# Altium footprint library rcl.PCBLIB: 489 footprints (part 15 of 31)
Each footprint in its own frame and in the unit in brackets; x right, y up, seen from the top. Pads: shape width x height; smd on the part's side, far side on the other; paste and mask are expansions set on the pad; w line width, h text height; cw(c..) or ccw(c..) is an arc to the next point about the centre after c.
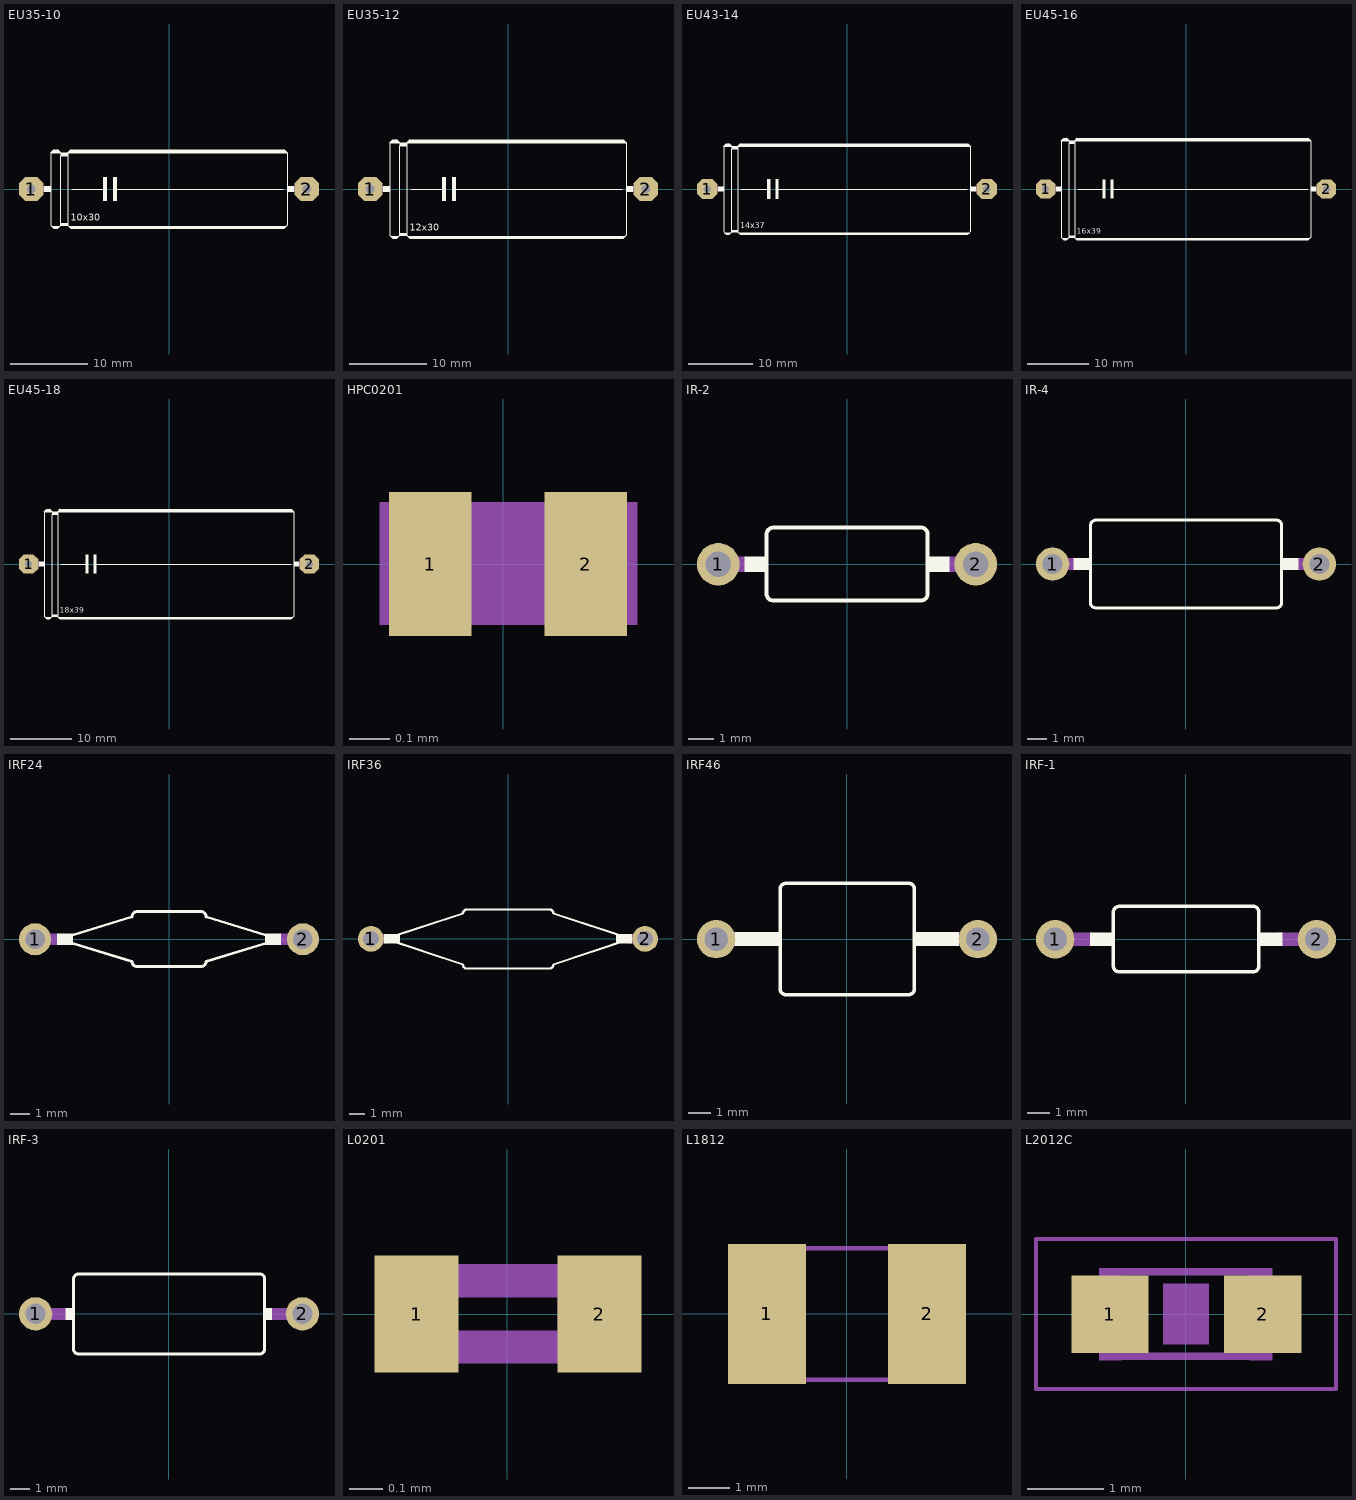
[diagram p14: the footprints below, top view; thin cyan lines are the x and y axes]

## EU35-10 [mil]
pads (2):
  oct 124x124 hole 44: 1(-700,0) 2(700,0)
Top Overlay:
  rectangle: -285,-60 -265,60
  rectangle: -635,-15 -600,15
  rectangle: 600,-15 635,15
  rectangle: -335,-60 -315,60
  lines w6: -495,0 -325,0 ; -270,0 580,0 ; -600,185 -600,-185 -595,-190 ; -600,185 -585,200 -565,200 -550,185 ; -600,185 -550,185 ; -595,-190 -555,-190 ; -595,-190 -585,-200 -565,-200 -555,-190 ; -555,-190 -550,-185 ; -550,-185 -550,-175 ; -550,-185 -515,-185 ; -550,-175 -515,-175 ; -550,-175 -550,170 ; -550,170 -550,185 ; -550,170 -515,170 ; -550,185 -515,185 ; -515,-185 -510,-190 ; -515,-185 -515,-175 ; -515,-175 -515,170 ; -515,170 -515,185 ; -515,185 -500,200 585,200 600,185 ; -515,185 600,185 ; -510,-190 -500,-200 585,-200 595,-190 ; -510,-190 595,-190 ; 595,-190 600,-185 600,185
  lines w10: -585,-195 -565,-195 ; -545,-180 -520,-180 ; -500,-195 585,-195
  lines w12: -590,190 -560,190 ; -585,195 -565,195 ; -545,175 -520,175 ; -545,180 -520,180 ; -505,190 590,190 ; -500,195 585,195
  text "10x30" at -500,-175 h60.45
Mechanical 16:
  lines w30: -700,0 -635,0 ; 635,0 700,0

## EU35-12 [mil]
pads (2):
  oct 124x124 hole 44: 1(-700,0) 2(700,0)
Top Overlay:
  rectangle: -285,-60 -265,60
  rectangle: -635,-15 -600,15
  rectangle: 600,-15 635,15
  rectangle: -335,-60 -315,60
  lines w6: -495,0 -325,0 ; -270,0 580,0 ; -600,235 -600,-235 -595,-240 ; -600,235 -585,250 -565,250 -550,235 ; -600,235 -550,235 ; -595,-240 -555,-240 ; -595,-240 -585,-250 -565,-250 -555,-240 ; -555,-240 -550,-235 ; -550,-235 -550,-225 ; -550,-235 -515,-235 ; -550,-225 -515,-225 ; -550,-225 -550,220 ; -550,220 -550,235 ; -550,220 -515,220 ; -550,235 -515,235 ; -515,-235 -510,-240 ; -515,-235 -515,-225 ; -515,-225 -515,220 ; -515,220 -515,235 ; -515,235 -500,250 585,250 600,235 ; -515,235 600,235 ; -510,-240 -500,-250 585,-250 595,-240 ; -510,-240 595,-240 ; 595,-240 600,-235 600,235
  lines w10: -585,-245 -565,-245 ; -545,-230 -520,-230 ; -500,-245 585,-245
  lines w12: -590,240 -560,240 ; -585,245 -565,245 ; -545,225 -520,225 ; -545,230 -520,230 ; -505,240 590,240 ; -500,245 585,245
  text "12x30" at -500,-225 h60.45
Mechanical 16:
  lines w30: -700,0 -635,0 ; 635,0 700,0

## EU43-14 [mil]
pads (2):
  oct 124x124 hole 44: 1(-850,0) 2(850,0)
Top Overlay:
  rectangle: -435,-60 -415,60
  rectangle: -485,-60 -465,60
  rectangle: 750,-15 785,15
  rectangle: -785,-15 -750,15
  lines w6: -645,0 -475,0 ; -420,0 730,0 ; -750,260 -750,-260 -745,-265 ; -750,260 -735,275 -715,275 -700,260 ; -750,260 -700,260 ; -745,-265 -705,-265 ; -745,-265 -735,-275 -715,-275 -705,-265 ; -705,-265 -700,-260 ; -700,-260 -700,-250 ; -700,-260 -665,-260 ; -700,-250 -665,-250 ; -700,-250 -700,245 ; -700,245 -700,260 ; -700,245 -665,245 ; -700,260 -665,260 ; -665,-260 -660,-265 ; -665,-260 -665,-250 ; -665,-250 -665,245 ; -665,245 -665,260 ; -665,260 -650,275 735,275 750,260 ; -665,260 750,260 ; -660,-265 -650,-275 735,-275 745,-265 ; -660,-265 745,-265 ; 745,-265 750,-260 750,260
  lines w10: -735,-270 -715,-270 ; -695,-255 -670,-255 ; -650,-270 735,-270
  lines w12: -740,265 -710,265 ; -735,270 -715,270 ; -695,250 -670,250 ; -695,255 -670,255 ; -655,265 740,265 ; -650,270 735,270
  text "14x37" at -650,-250 h60.45
Mechanical 16:
  lines w30: -850,0 -785,0 ; 785,0 850,0

## EU45-16 [mil]
pads (2):
  oct 124x124 hole 44: 1(-900,0) 2(900,0)
Top Overlay:
  rectangle: -485,-60 -465,60
  rectangle: -535,-60 -515,60
  rectangle: 800,-15 835,15
  rectangle: -835,-15 -800,15
  lines w6: -695,0 -525,0 ; -470,0 780,0 ; -800,310 -800,-310 -795,-315 ; -800,310 -785,325 -765,325 -750,310 ; -800,310 -750,310 ; -795,-315 -755,-315 ; -795,-315 -785,-325 -765,-325 -755,-315 ; -755,-315 -750,-310 ; -750,-310 -750,-300 ; -750,-310 -715,-310 ; -750,-300 -715,-300 ; -750,-300 -750,295 ; -750,295 -750,310 ; -750,295 -715,295 ; -750,310 -715,310 ; -715,-310 -710,-315 ; -715,-310 -715,-300 ; -715,-300 -715,295 ; -715,295 -715,310 ; -715,310 -700,325 785,325 800,310 ; -715,310 800,310 ; -710,-315 -700,-325 785,-325 795,-315 ; -710,-315 795,-315 ; 795,-315 800,-310 800,310
  lines w10: -785,-320 -765,-320 ; -745,-305 -720,-305 ; -700,-320 785,-320
  lines w12: -790,315 -760,315 ; -785,320 -765,320 ; -745,300 -720,300 ; -745,305 -720,305 ; -705,315 790,315 ; -700,320 785,320
  text "16x39" at -700,-300 h60.45
Mechanical 16:
  lines w30: -900,0 -835,0 ; 835,0 900,0

## EU45-18 [mil]
pads (2):
  oct 124x124 hole 44: 1(-900,0) 2(900,0)
Top Overlay:
  rectangle: -485,-60 -465,60
  rectangle: -535,-60 -515,60
  rectangle: 800,-15 835,15
  rectangle: -835,-15 -800,15
  lines w6: -695,0 -525,0 ; -470,0 780,0 ; -800,335 -800,-335 -795,-340 ; -800,335 -785,350 -765,350 -750,335 ; -800,335 -750,335 ; -795,-340 -755,-340 ; -795,-340 -785,-350 -765,-350 -755,-340 ; -755,-340 -750,-335 ; -750,-335 -750,-325 ; -750,-335 -715,-335 ; -750,-325 -715,-325 ; -750,-325 -750,320 ; -750,320 -750,335 ; -750,320 -715,320 ; -750,335 -715,335 ; -715,-335 -710,-340 ; -715,-335 -715,-325 ; -715,-325 -715,320 ; -715,320 -715,335 ; -715,335 -700,350 785,350 800,335 ; -715,335 800,335 ; -710,-340 -700,-350 785,-350 795,-340 ; -710,-340 795,-340 ; 795,-340 800,-335 800,335
  lines w10: -785,-345 -765,-345 ; -745,-330 -720,-330 ; -700,-345 785,-345
  lines w12: -790,340 -760,340 ; -785,345 -765,345 ; -745,325 -720,325 ; -745,330 -720,330 ; -705,340 790,340 ; -700,345 785,345
  text "18x39" at -700,-325 h60.45
Mechanical 16:
  lines w30: -900,0 -835,0 ; 835,0 900,0

## HPC0201 [mil]
pads (2):
  rect 8x14 smd: 1(-7.09,0) 2(8,0)
Mechanical 16:
  rectangle: -12.01,-5.91 13,6

## IR-2 [mil]
pads (2):
  round 66 hole 40: 1(-200,0) 2(200,0)
Top Overlay:
  rectangle: 125,-12 159,12
  rectangle: -159,-12 -125,12
  lines w6: -125,-45.83 ccw(c-114.94,-46.04) -115.16,-56.1 116,-56.1 ccw(c115.36,-46.46) 125,-45.83 125,46 ccw(c115,47) 116,57 -114.17,57 ccw(c-114.09,46.09) -125,46 -125,-45.83
Mechanical 16:
  lines w24: -200,0 -160,0 ; 160,0 200,0

## IR-4 [mil]
pads (2):
  round 66 hole 40: 1(-263.98,0) 2(265,0)
Top Overlay:
  rectangle: 190,-12 224,12
  rectangle: -222.98,-12 -188.98,12
  lines w6: -188.98,-76.34 ccw(c-178.92,-76.56) -179.13,-86.61 181,-86.61 ccw(c180.36,-76.98) 190,-76.34 190,77 ccw(c180.5,77.5) 181,87 -178.15,87 ccw(c-178.56,76.59) -188.98,77 -188.98,-76.34
Mechanical 16:
  lines w24: -263.98,0 -223.98,0 ; 225,0 265,0

## IRF24 [mil]
pads (2):
  round 66 hole 40: 1(-275,0) 2(275,0)
Top Overlay:
  rectangle: 197,-12 230,12
  rectangle: -230.31,-12 -196.85,12
  lines w6: -225.39,0 -75.79,-45.83 ccw(c-65.73,-46.04) -65.94,-56.1 66,-56.1 ccw(c65.86,-45.96) 76,-45.83 226,0 76,46 ccw(c65.5,46.5) 66,57 -64.96,57 ccw(c-64.87,46.09) -75.79,46 -225.39,0
Mechanical 16:
  lines w24: -275,0 -232.87,0 ; 230,0 275,0

## IRF36 [mil]
pads (2):
  round 66 hole 40: 1(-350,0) 2(350,0)
Top Overlay:
  rectangle: 276,-12 317,12
  rectangle: -316.93,-12 -275.59,12
  lines w6: -312.99,0 -115.16,-65.51 ccw(c-105.1,-65.73) -105.31,-75.79 106,-75.79 ccw(c105.86,-65.65) 116,-65.51 313,0 116,65 ccw(c106,65) 106,75 -104.33,75 ccw(c-104.74,64.59) -115.16,65 -312.99,0
Mechanical 16:
  lines w24: -350,0 -311.61,0 ; 309,0 350,0

## IRF46 [mil]
pads (2):
  round 66 hole 40: 1(-225,0) 2(225,0)
Top Overlay:
  rectangle: 116,-12 193,12
  rectangle: -193.9,-12 -115.16,12
  lines w6: -115.16,-85.2 ccw(c-105.1,-85.41) -105.31,-95.47 106,-95.47 ccw(c105.86,-85.33) 116,-85.2 116,86 ccw(c106,86) 106,96 -104.33,96 ccw(c-104.74,85.59) -115.16,86 -115.16,-85.2
Mechanical 16:
  lines w24: -225,0 -175,0 ; 175,0 225,0

## IRF-1 [mil]
pads (2):
  round 66 hole 40: 1(-225,0) 2(225,0)
Top Overlay:
  rectangle: 125,-12 166,12
  rectangle: -165.35,-12 -125,12
  lines w6: -125,-45.83 ccw(c-114.94,-46.04) -115.16,-56.1 116,-56.1 ccw(c115.36,-46.46) 125,-45.83 125,46 ccw(c115,47) 116,57 -114.17,57 ccw(c-114.09,46.09) -125,46 -125,-45.83
Mechanical 16:
  lines w24: -225,0 -160,0 ; 160,0 225,0

## IRF-3 [mil]
pads (2):
  round 66 hole 40: 1(-263.98,0) 2(265,0)
Top Overlay:
  rectangle: 190,-12 205,12
  rectangle: -204.72,-12 -188.98,12
  lines w6: -188.98,-69.45 ccw(c-178.92,-69.67) -179.13,-79.72 181,-79.72 ccw(c180.36,-70.09) 190,-69.45 190,69 ccw(c180.5,69.5) 181,79 -178.15,79 ccw(c-178.56,68.59) -188.98,69 -188.98,-69.45
Mechanical 16:
  lines w24: -263.98,0 -205.71,0 ; 205,0 265,0

## L0201 [mil]
pads (2):
  rect 10x14 smd: 1(-10.83,0) 2(11,0)
Mechanical 16:
  rectangle: -11.81,-5.91 -5.91,6
  rectangle: 6,-5.91 12,6
  rectangle: -5.91,2 6,6
  rectangle: -5.91,-5.91 6,-1.97

## L1812 [mil]
pads (2):
  rect 75x134 smd: 1(-76.77,0) 2(77,0)
Mechanical 16:
  rectangle: -94,-65 -56.6,65
  rectangle: 57,-65 95,65
  lines w4: -58,63 58,63 ; -57,-63 58,-63

## L2012C [mil]
pads (2):
  rect 40x40 smd: 1(-39.37,0) 2(40,0)
Mechanical 6:
  rectangle: -11.81,-15.75 12,16
Mechanical 16:
  rectangle: -45,-24 -33.19,24
  rectangle: 33,-24 45,24
  lines w4: -34.02,-21.77 35,-21.77 ; -34.02,22 35,22
Mechanical 27:
  lines w2: -77.68,-38.7 78,-38.7 78,39 -77.68,39 -77.68,-38.7